# EAGLE library part BME680 (library SparkFun-Sensors_Smight)
Bosch BME680 – Combined Humidity and Pressure Sensor The BME680 is as combined digital humidity, pressure and temperature sensor based on proven sensing principles. The sensor module is housed in an extremely compact metal-lid LGA package with a footprint of only 3.0×3.0mm² with a height of 0.93mm. Its small dimensions and its low power consumption allow the implementation in battery driven devices such as handsets, GPS modules or watches.
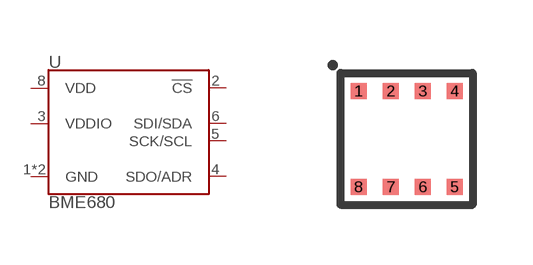
[diagram p42: symbol with the pads of LGA3.0X3.0; footprint LGA3.0X3.0]

Designator prefix U

## BME680BME680  [LGA3.0X3.0]
1  GND
2  !CS
3  VDDIO
4  SDO/ADR
5  SCK/SCL
6  SDI/SDA
7  GND
8  VDD

## Footprint LGA3.0X3.0 (pad centres in mm)
smd 0.4 x 0.4: 1 -1.2,1.2; 2 -0.4,1.2; 3 0.4,1.2; 4 1.2,1.2; 5 1.2,-1.2; 6 0.4,-1.2; 7 -0.4,-1.2; 8 -1.2,-1.2